# EAGLE library part ATSAMD51J (library dadamachines)
Microchip ATSAMD51Jxx ARM Cortex-M4 (64 pin) ...19 - 512kb Flash 192kb RAM
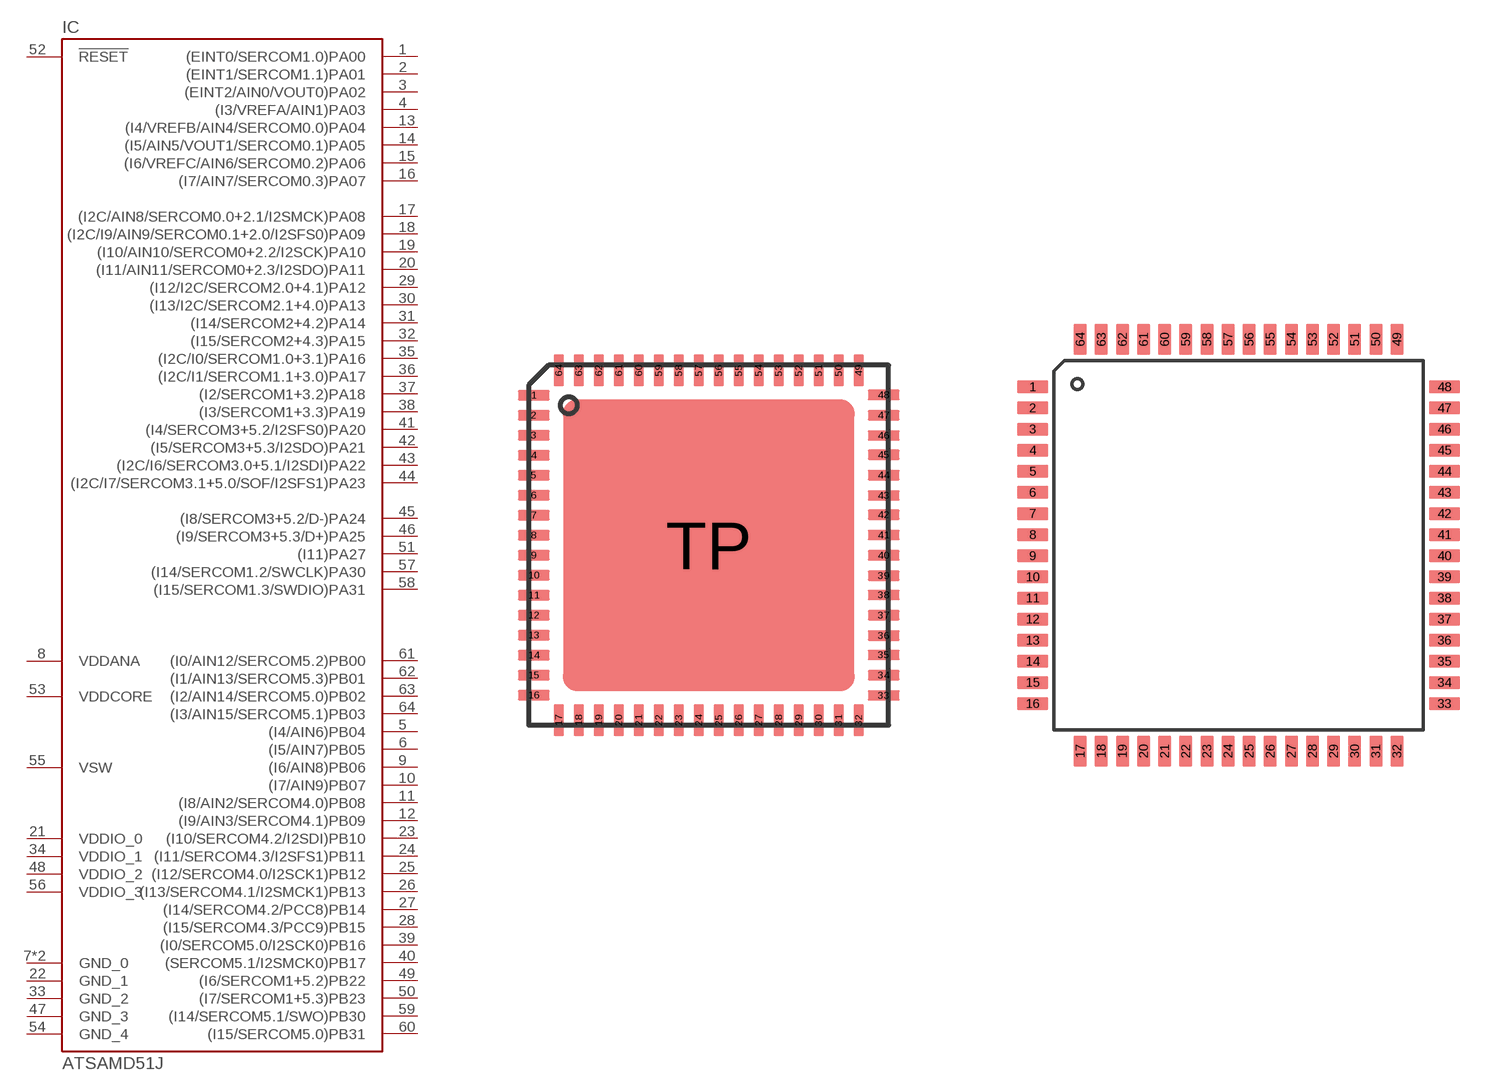
[diagram p11: symbol with the pads of QFN64-PAD; footprints QFN64-PAD, TQFP64]

Designator prefix IC

## ATSAMD51J19A-MU  [QFN64-PAD]
1  (EINT0/SERCOM1.0)PA00
2  (EINT1/SERCOM1.1)PA01
3  (EINT2/AIN0/VOUT0)PA02
4  (I3/VREFA/AIN1)PA03
5  (I4/AIN6)PB04
6  (I5/AIN7)PB05
7  GND_0  pwr
8  VDDANA  pwr
9  (I6/AIN8)PB06
10  (I7/AIN9)PB07
11  (I8/AIN2/SERCOM4.0)PB08
12  (I9/AIN3/SERCOM4.1)PB09
13  (I4/VREFB/AIN4/SERCOM0.0)PA04
14  (I5/AIN5/VOUT1/SERCOM0.1)PA05
15  (I6/VREFC/AIN6/SERCOM0.2)PA06
16  (I7/AIN7/SERCOM0.3)PA07
17  (I2C/AIN8/SERCOM0.0+2.1/I2SMCK)PA08
18  (I2C/I9/AIN9/SERCOM0.1+2.0/I2SFS0)PA09
19  (I10/AIN10/SERCOM0+2.2/I2SCK)PA10
20  (I11/AIN11/SERCOM0+2.3/I2SDO)PA11
21  VDDIO_0  pwr
22  GND_1  pwr
23  (I10/SERCOM4.2/I2SDI)PB10
24  (I11/SERCOM4.3/I2SFS1)PB11
25  (I12/SERCOM4.0/I2SCK1)PB12
26  (I13/SERCOM4.1/I2SMCK1)PB13
27  (I14/SERCOM4.2/PCC8)PB14
28  (I15/SERCOM4.3/PCC9)PB15
29  (I12/I2C/SERCOM2.0+4.1)PA12
30  (I13/I2C/SERCOM2.1+4.0)PA13
31  (I14/SERCOM2+4.2)PA14
32  (I15/SERCOM2+4.3)PA15
33  GND_2  pwr
34  VDDIO_1  pwr
35  (I2C/I0/SERCOM1.0+3.1)PA16
36  (I2C/I1/SERCOM1.1+3.0)PA17
37  (I2/SERCOM1+3.2)PA18
38  (I3/SERCOM1+3.3)PA19
39  (I0/SERCOM5.0/I2SCK0)PB16
40  (SERCOM5.1/I2SMCK0)PB17
41  (I4/SERCOM3+5.2/I2SFS0)PA20
42  (I5/SERCOM3+5.3/I2SDO)PA21
43  (I2C/I6/SERCOM3.0+5.1/I2SDI)PA22
44  (I2C/I7/SERCOM3.1+5.0/SOF/I2SFS1)PA23
45  (I8/SERCOM3+5.2/D-)PA24
46  (I9/SERCOM3+5.3/D+)PA25
47  GND_3  pwr
48  VDDIO_2  pwr
49  (I6/SERCOM1+5.2)PB22
50  (I7/SERCOM1+5.3)PB23
51  (I11)PA27
52  !RESET  in
53  VDDCORE  pwr
54  GND_4  pwr
55  VSW  pwr
56  VDDIO_3  pwr
57  (I14/SERCOM1.2/SWCLK)PA30
58  (I15/SERCOM1.3/SWDIO)PA31
59  (I14/SERCOM5.1/SWO)PB30
60  (I15/SERCOM5.0)PB31
61  (I0/AIN12/SERCOM5.2)PB00
62  (I1/AIN13/SERCOM5.3)PB01
63  (I2/AIN14/SERCOM5.0)PB02
64  (I3/AIN15/SERCOM5.1)PB03
TP  GND_0  pwr

## ATSAMD51J19A-AU  [TQFP64]
1  (EINT0/SERCOM1.0)PA00
2  (EINT1/SERCOM1.1)PA01
3  (EINT2/AIN0/VOUT0)PA02
4  (I3/VREFA/AIN1)PA03
5  (I4/AIN6)PB04
6  (I5/AIN7)PB05
7  GND_0  pwr
8  VDDANA  pwr
9  (I6/AIN8)PB06
10  (I7/AIN9)PB07
11  (I8/AIN2/SERCOM4.0)PB08
12  (I9/AIN3/SERCOM4.1)PB09
13  (I4/VREFB/AIN4/SERCOM0.0)PA04
14  (I5/AIN5/VOUT1/SERCOM0.1)PA05
15  (I6/VREFC/AIN6/SERCOM0.2)PA06
16  (I7/AIN7/SERCOM0.3)PA07
17  (I2C/AIN8/SERCOM0.0+2.1/I2SMCK)PA08
18  (I2C/I9/AIN9/SERCOM0.1+2.0/I2SFS0)PA09
19  (I10/AIN10/SERCOM0+2.2/I2SCK)PA10
20  (I11/AIN11/SERCOM0+2.3/I2SDO)PA11
21  VDDIO_0  pwr
22  GND_1  pwr
23  (I10/SERCOM4.2/I2SDI)PB10
24  (I11/SERCOM4.3/I2SFS1)PB11
25  (I12/SERCOM4.0/I2SCK1)PB12
26  (I13/SERCOM4.1/I2SMCK1)PB13
27  (I14/SERCOM4.2/PCC8)PB14
28  (I15/SERCOM4.3/PCC9)PB15
29  (I12/I2C/SERCOM2.0+4.1)PA12
30  (I13/I2C/SERCOM2.1+4.0)PA13
31  (I14/SERCOM2+4.2)PA14
32  (I15/SERCOM2+4.3)PA15
33  GND_2  pwr
34  VDDIO_1  pwr
35  (I2C/I0/SERCOM1.0+3.1)PA16
36  (I2C/I1/SERCOM1.1+3.0)PA17
37  (I2/SERCOM1+3.2)PA18
38  (I3/SERCOM1+3.3)PA19
39  (I0/SERCOM5.0/I2SCK0)PB16
40  (SERCOM5.1/I2SMCK0)PB17
41  (I4/SERCOM3+5.2/I2SFS0)PA20
42  (I5/SERCOM3+5.3/I2SDO)PA21
43  (I2C/I6/SERCOM3.0+5.1/I2SDI)PA22
44  (I2C/I7/SERCOM3.1+5.0/SOF/I2SFS1)PA23
45  (I8/SERCOM3+5.2/D-)PA24
46  (I9/SERCOM3+5.3/D+)PA25
47  GND_3  pwr
48  VDDIO_2  pwr
49  (I6/SERCOM1+5.2)PB22
50  (I7/SERCOM1+5.3)PB23
51  (I11)PA27
52  !RESET  in
53  VDDCORE  pwr
54  GND_4  pwr
55  VSW  pwr
56  VDDIO_3  pwr
57  (I14/SERCOM1.2/SWCLK)PA30
58  (I15/SERCOM1.3/SWDIO)PA31
59  (I14/SERCOM5.1/SWO)PB30
60  (I15/SERCOM5.0)PB31
61  (I0/AIN12/SERCOM5.2)PB00
62  (I1/AIN13/SERCOM5.3)PB01
63  (I2/AIN14/SERCOM5.0)PB02
64  (I3/AIN15/SERCOM5.1)PB03

## Footprint QFN64-PAD (pad centres in mm)
smd 0.8 x 0.26: 1 -4.375,3.75; 2 -4.375,3.25; 3 -4.375,2.75; 4 -4.375,2.25; 5 -4.375,1.75; 6 -4.375,1.25; 7 -4.375,0.75; 8 -4.375,0.25; 9 -4.375,-0.25; 10 -4.375,-0.75; 11 -4.375,-1.25; 12 -4.375,-1.75; 13 -4.375,-2.25; 14 -4.375,-2.75; 15 -4.375,-3.25; 16 -4.375,-3.75; 33 4.375,-3.759; 34 4.375,-3.251; 35 4.375,-2.743; 36 4.375,-2.261; 37 4.375,-1.753; 38 4.375,-1.245; 39 4.375,-0.762; 40 4.375,-0.254; 41 4.375,0.254; 42 4.375,0.762; 43 4.375,1.245; 44 4.375,1.753; 45 4.375,2.261; 46 4.375,2.743; 47 4.375,3.251; 48 4.375,3.759
smd 0.26 x 0.8: 17 -3.75,-4.375; 18 -3.25,-4.375; 19 -2.75,-4.375; 20 -2.25,-4.375; 21 -1.75,-4.375; 22 -1.25,-4.375; 23 -0.75,-4.375; 24 -0.25,-4.375; 25 0.25,-4.375; 26 0.75,-4.375; 27 1.25,-4.375; 28 1.75,-4.375; 29 2.25,-4.375; 30 2.75,-4.375; 31 3.25,-4.375; 32 3.75,-4.375; 49 3.75,4.375; 50 3.25,4.375; 51 2.75,4.375; 52 2.25,4.375; 53 1.75,4.375; 54 1.25,4.375; 55 0.75,4.375; 56 0.25,4.375; 57 -0.25,4.375; 58 -0.75,4.375; 59 -1.25,4.375; 60 -1.75,4.375; 61 -2.25,4.375; 62 -2.75,4.375; 63 -3.25,4.375; 64 -3.75,4.375
smd 7.3 x 7.3: TP 0,0

## Footprint TQFP64 (pad centres in mm)
smd 1.194 x 0.5: 1 -7.8,6; 2 -7.8,5.2; 3 -7.8,4.4; 4 -7.8,3.6; 5 -7.8,2.8; 6 -7.8,2; 7 -7.8,1.2; 8 -7.8,0.4; 9 -7.8,-0.4; 10 -7.8,-1.2; 11 -7.8,-2; 12 -7.8,-2.8; 13 -7.8,-3.6; 14 -7.8,-4.4; 15 -7.8,-5.2; 16 -7.8,-6; 33 7.8,-6; 34 7.8,-5.2; 35 7.8,-4.4; 36 7.8,-3.6; 37 7.8,-2.8; 38 7.8,-2; 39 7.8,-1.2; 40 7.8,-0.4; 41 7.8,0.4; 42 7.8,1.2; 43 7.8,2; 44 7.8,2.8; 45 7.8,3.6; 46 7.8,4.4; 47 7.8,5.2; 48 7.8,6
smd 0.5 x 1.194: 17 -6,-7.8; 18 -5.2,-7.8; 19 -4.4,-7.8; 20 -3.6,-7.8; 21 -2.8,-7.8; 22 -2,-7.8; 23 -1.2,-7.8; 24 -0.4,-7.8; 25 0.4,-7.8; 26 1.2,-7.8; 27 2,-7.8; 28 2.8,-7.8; 29 3.6,-7.8; 30 4.4,-7.8; 31 5.2,-7.8; 32 6,-7.8; 49 6,7.8; 50 5.2,7.8; 51 4.4,7.8; 52 3.6,7.8; 53 2.8,7.8; 54 2,7.8; 55 1.2,7.8; 56 0.4,7.8; 57 -0.4,7.8; 58 -1.2,7.8; 59 -2,7.8; 60 -2.8,7.8; 61 -3.6,7.8; 62 -4.4,7.8; 63 -5.2,7.8; 64 -6,7.8